# EAGLE library part 693043020611 (library WR-CRD)
WR-CRD Nano SIM Card Connector KIND PROPERTIES Gender:Socket Type:Push & Push General Information Operating Temperature:-25 up to +85 °C Electrical Properties Working Voltage:15 V (AC) Withstanding Voltage:500 V (AC) Contact Resistance:100 mΩ Material Properties Insulator MateriaL:LCP Insulator Flammability Rating:UL94 V-0 Color:Black Contact Material:Copper Alloy Contact Plating:Selective Gold Contact Type{Stamped Shielding Material:Stainless Steel Shielding Plating:Nickel <https://www.we-online.com/components/media/o33068v209%20Family_WR-CRD_Nano_SIM_PushPull_6Pins_693043020611.jpg> Details see: www.we-online.com/en/components/products/CRD_NANO_SIM_PUSH_AND_PULL Created by Yingchun,Shan 2019-11-21 2019 (C) Würth Elektronik
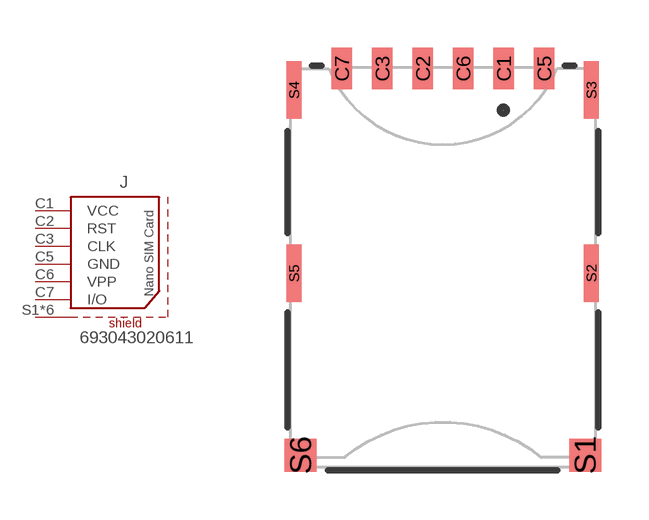
[diagram p4: symbol with the pads of 693043020611; footprint 693043020611]

Designator prefix J

## 693043020611 (DATASHEET-URL: https://www.we-online.com/redexpert/spec/693043020611?ae; GERDER: Socket; IR: 1A; MOUNT: SMT; PART-NUMBER: 693043020611; PINS: 6; TYPE: Push & Push; VALUE: 693043020611; WORKING-VOLTAGE: 15V(AC))  [693043020611]
C1  VCC
C2  RST
C3  CLK
C5  GND
C6  VPP
C7  I/O
S1  SHIELD
S2  SHIELD
S3  SHIELD
S4  SHIELD
S5  SHIELD
S6  SHIELD

## Footprint 693043020611 (pad centres in mm)
WR-CRD Nano SIM Card Connector
smd 0.65 x 1.3: C1 1.91,6.42; C2 -0.63,6.42; C3 -1.9,6.42; C5 3.18,6.42; C6 0.64,6.42; C7 -3.17,6.42
smd 1 x 1.03: S1 4.465,-5.72; S6 -4.465,-5.72
smd 0.48 x 1.8: S2 4.66,0; S3 4.66,5.75; S4 -4.67,5.75; S5 -4.67,0